# Altium schematic symbol library NPNTransistor_BC817-40,215.SchLib: 1 symbol
Pins are listed as number, name and electrical type; pins without a type are passive.

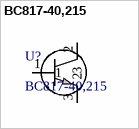
[diagram p0: symbol BC817-40,215]

## BC817-40,215
designator U?
Description; Manufacturer_Name: Nexperia; Copyright: Copyright (C) 2026 Ultra Librarian. All rights reserved.; Manufacturer_Part_Number: BC817-40,215
footprint SOT23_NEX
pins: 1, 2 3, 3 2